# EAGLE library part 2QSP16-8 (library resistor-bourns)
BOURNS RESISTOR NETWORK
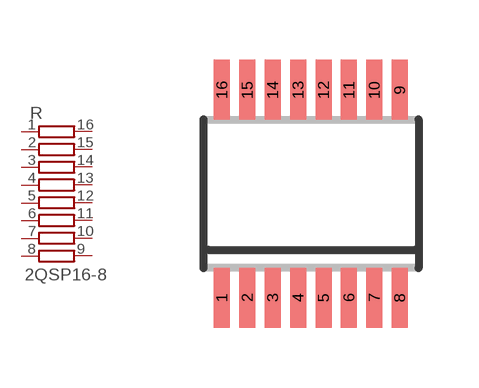
[diagram p7: symbol with the pads of 2QSP16; footprint 2QSP16]

Designator prefix R

## 2QSP16-8 (OC_FARNELL: unknown; OC_NEWARK: unknown)  [2QSP16]
1  1  pas
2  2  pas
3  3  pas
4  4  pas
5  5  pas
6  6  pas
7  7  pas
8  8  pas
9  9  pas
10  10  pas
11  11  pas
12  12  pas
13  13  pas
14  14  pas
15  15  pas
16  16  pas

## Footprint 2QSP16 (pad centres in mm)
BOURNS RESISTOR NETWORK
smd 0.4 x 1.5: 1 -2.223,-2.6; 2 -1.588,-2.6; 3 -0.953,-2.6; 4 -0.318,-2.6; 5 0.318,-2.6; 6 0.953,-2.6; 7 1.588,-2.6; 8 2.223,-2.6; 9 2.223,2.6; 10 1.588,2.6; 11 0.953,2.6; 12 0.318,2.6; 13 -0.318,2.6; 14 -0.953,2.6; 15 -1.588,2.6; 16 -2.223,2.6